# EAGLE library part JST_S8B-ZR (library added_parts)
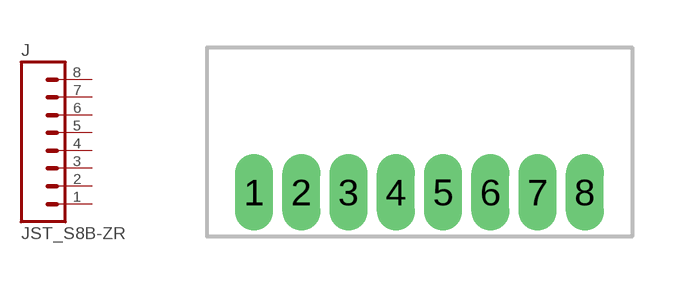
[diagram p36: symbol with the pads of JST_S8B-ZR; footprint JST_S8B-ZR]

Designator prefix J

## JST_S8B-ZR  [JST_S8B-ZR]
1  1  pas
2  2  pas
3  3  pas
4  4  pas
5  5  pas
6  6  pas
7  7  pas
8  8  pas

## Footprint JST_S8B-ZR (pad centres in mm)
drill 0.7 pad 1.1 long: 1 -5.25,0; 2 -3.75,0; 3 -2.25,0; 4 -0.75,0; 5 0.75,0; 6 2.25,0; 7 3.75,0; 8 5.25,0